# EAGLE library part LT1678 (library ruark2)
General Purpose Amplifier 2 Circuit Rail-to-Rail 8-SO 20MHz Rail to Rail
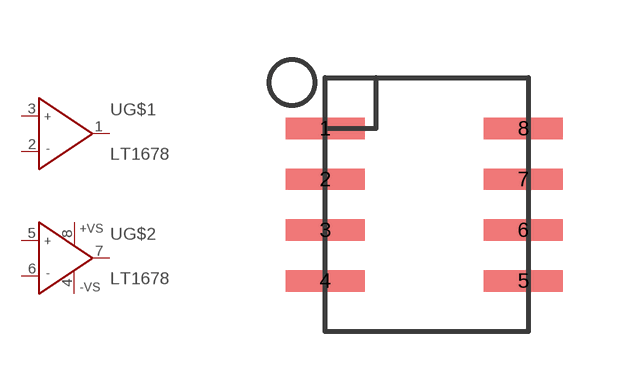
[diagram p128: symbol with the pads of SOIC8; footprint SOIC8]

Designator prefix U; gates G$1=OP G$2=OP+-

## LT1678 (PARTNO: LT1678CS8#TRPBFCT-ND)  [SOIC8]
1  G$1:OUT  out
2  G$1:IN-  in
3  G$1:IN+  in
4  G$2:-VS  in
5  G$2:IN+  in
6  G$2:IN-  in
7  G$2:OUT  out
8  G$2:+VS  in

## Footprint SOIC8 (pad centres in mm)
smd 1.981 x 0.533: 1 -2.477,1.905; 2 -2.477,0.635; 3 -2.477,-0.635; 4 -2.477,-1.905; 5 2.477,-1.905; 6 2.477,-0.635; 7 2.477,0.635; 8 2.477,1.905